# Altium footprint library qfn_16p65_400x400x100l40x30t265x265.PcbLib: 1 footprints
Each footprint in its own frame and in the unit in brackets; x right, y up, seen from the top. Pads: shape width x height; smd on the part's side, far side on the other; paste and mask are expansions set on the pad; w line width, h text height; cw(c..) or ccw(c..) is an arc to the next point about the centre after c.
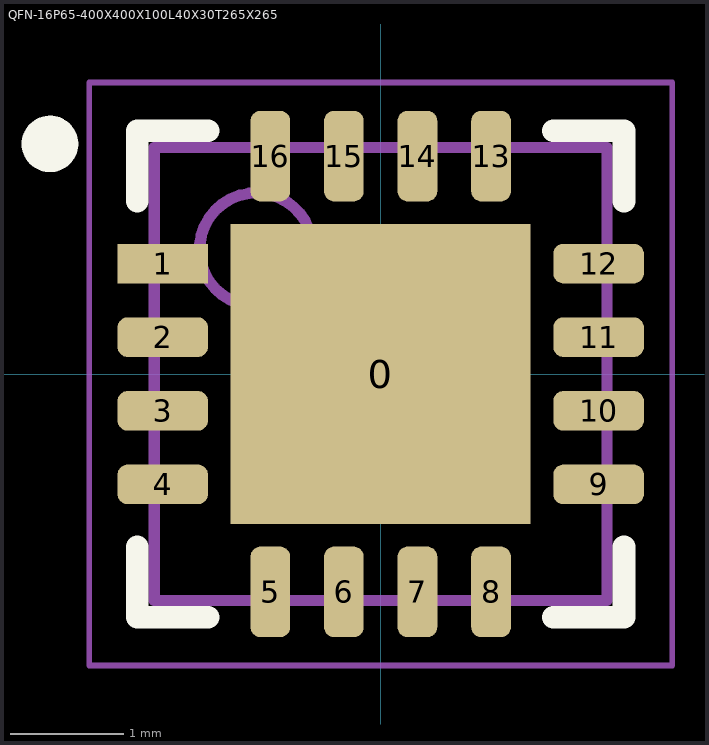
[diagram p0: the footprint, top view; thin cyan lines are the x and y axes]

## QFN-16P65-400X400X100L40X30T265X265 [mm] "QFN, 16-Leads, Body 4,00x4,00mm, Pitch 0,65mm, Thermal Pad 2,65x2,65mm, IPC Medium Density"
height 1
pads (17):
  rect 2.65x2.65 smd: 0(0,0)
  rect 0.8x0.35 smd: 1(-1.925,0.975)
  rrect50% 0.8x0.35 smd: 2(-1.925,0.325) 3(-1.925,-0.325) 4(-1.925,-0.975) 9(1.925,-0.975) 10(1.925,-0.325) 11(1.925,0.325) 12(1.925,0.975)
  rrect50% 0.35x0.8 smd: 5(-0.975,-1.925) 6(-0.325,-1.925) 7(0.325,-1.925) 8(0.975,-1.925) 13(0.975,1.925) 14(0.325,1.925) 15(-0.325,1.925) 16(-0.975,1.925)
Top Overlay:
  circle w0.25: c-2.921,2.032 r0.125
  lines w0.2: -2.15,-1.525 -2.15,-2.15 -1.525,-2.15 ; -2.15,1.525 -2.15,2.15 -1.525,2.15 ; 1.525,-2.15 2.15,-2.15 2.15,-1.525 ; 1.525,2.15 2.15,2.15 2.15,1.525
Top Comment:
  text ".Comment" at 0.9,2.8 h1.2
Top Designator:
  text ".Designator" at -0.6,2.8 h1.2
Top Component Outline:
  circle w0.1: c-1.1,1.1 r0.5
  lines w0.1: -2,-2 2,-2 2,2 -2,2 -2,-2
Top Courtyard (Mech15):
  lines w0.05: -2.575,-2.575 2.575,-2.575 2.575,2.575 -2.575,2.575 -2.575,-2.575
  lines w0.1: -0.5,0 0.5,0 ; 0,-0.5 0,0.5
3D body "QFN-16_4x4.STEP": height 0.85, standoff 0, extent -2.085,-2.085 2.085,2.085